# EAGLE library part LM5175 (library borkedlabs-powerics)
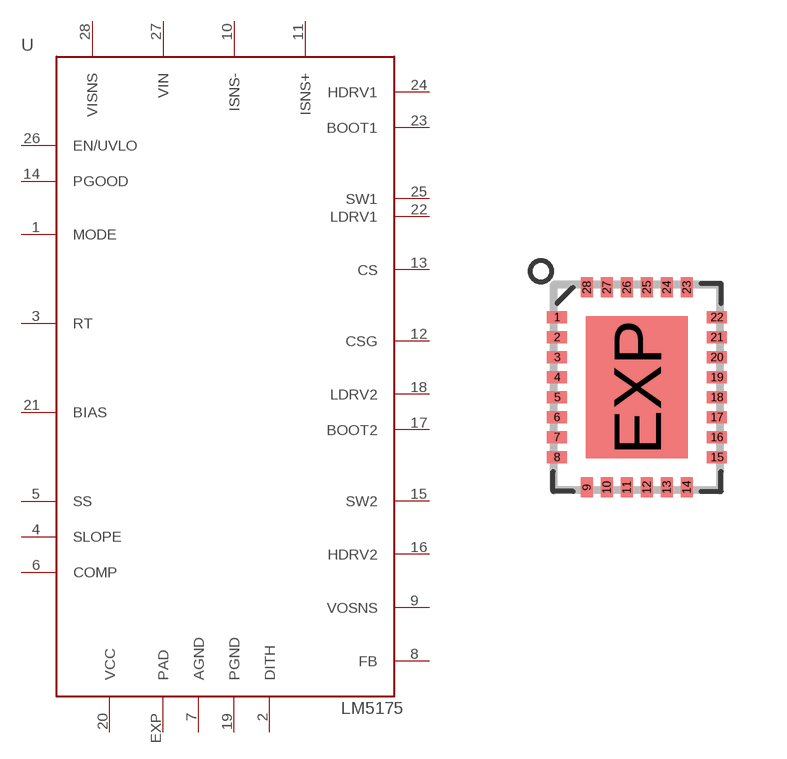
[diagram p8: symbol with the pads of QFN28-4X5; footprint QFN28-4X5]

Designator prefix U

## LM5175 (MANU: TI; MPN: LM5175RHFR; PACKAGE: VQFN-28)  [QFN28-4X5]
1  MODE
2  DITH
3  RT
4  SLOPE
5  SS
6  COMP
7  AGND
8  FB
9  VOSNS
10  ISNS-
11  ISNS+
12  CSG
13  CS
14  PGOOD
15  SW2
16  HDRV2
17  BOOT2
18  LDRV2
19  PGND
20  VCC
21  BIAS
22  LDRV1
23  BOOT1
24  HDRV1
25  SW1
26  EN/UVLO
27  VIN
28  VISNS
EXP  PAD

## Footprint QFN28-4X5 (pad centres in mm)
smd 0.5 x 0.3: 1 -2,1.75; 2 -2,1.25; 3 -2,0.75; 4 -2,0.25; 5 -2,-0.25; 6 -2,-0.75; 7 -2,-1.25; 8 -2,-1.75; 15 2,-1.75; 16 2,-1.25; 17 2,-0.75; 18 2,-0.25; 19 2,0.25; 20 2,0.75; 21 2,1.25; 22 2,1.75
smd 0.3 x 0.5: 9 -1.25,-2.5; 10 -0.75,-2.5; 11 -0.25,-2.5; 12 0.25,-2.5; 13 0.75,-2.5; 14 1.25,-2.5; 23 1.25,2.5; 24 0.75,2.5; 25 0.25,2.5; 26 -0.25,2.5; 27 -0.75,2.5; 28 -1.25,2.5
smd 2.55 x 3.55: EXP 0,0